# EAGLE library part MS5607 (library daqcs_host)
Barometric Pressure Sensor, with stainless steel cap Specs High resolution module, 20cm Fast conversion down to 1 ms Low power, 1 μA (standby < 0.15 μA) QFN package 5.0 x 3.0 x 1.0 mm3 Supply voltage 1.8 to 3.6 V Integrated digital pressure sensor (24 bit ΔΣ ADC) Operating range: 10 to 1200 mbar, -40 to +85 °C I2C and SPI interface up to 20 MHz No external components (Internal oscillator) Excellent long term stability
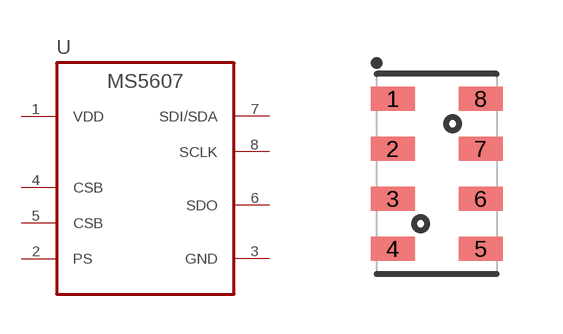
[diagram p2: symbol with the pads of SMD125P110X060-8N; footprint SMD125P110X060-8N]

Designator prefix U

## MS5607-02BA03_8SMD (INTERFACE: I2C,SPI; MANUFACTURER: TE Connectivity; MANUFACTURER_PN: MS560702BA03-50; OUTPUT_BITS: 24b; PRESSURE_TYPE: Absolute; VALUE: MS560702BA03-50; VENDOR: Digi-key; VENDOR_PN: 223-1198-1-ND)  [SMD125P110X060-8N]
1  VDD  pwr
2  PS  in
3  GND  pwr
4  CSB  in
5  CSB  out
6  SDO  out
7  SDI/SDA
8  SCLK  in

## Footprint SMD125P110X060-8N (pad centres in mm)
smd 1.1 x 0.6: 1 -1.1,1.875; 2 -1.1,0.625; 3 -1.1,-0.625; 4 -1.1,-1.875; 5 1.1,-1.875; 6 1.1,-0.625; 7 1.1,0.625; 8 1.1,1.875